# Altium footprint library tyco-mte.PcbLib: 3 footprints
Each footprint in its own frame and in the unit in brackets; x right, y up, seen from the top. Pads: shape width x height; smd on the part's side, far side on the other; paste and mask are expansions set on the pad; w line width, h text height; cw(c..) or ccw(c..) is an arc to the next point about the centre after c.
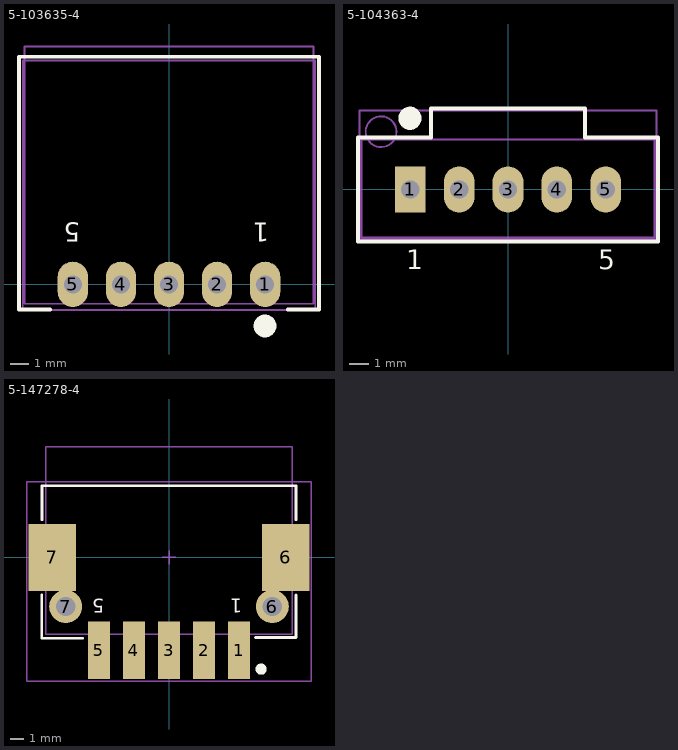
[diagram p0: the footprints below, top view; thin cyan lines are the x and y axes]

## 5-103635-4 [mm] "5pos, 2.54mm Wire to Board Connector, Header,  Right Angle"
height 4
pads (5):
  oval 1.6x2.4 hole 0.95: 1(5.08,0) 2(2.54,0) 3(0,0) 4(-2.54,0) 5(-5.08,0)
Top Overlay:
  circle w0.6: c5.075,-2.2 r0.3
  lines w0.2: -6.275,-1.325 -7.925,-1.325 -7.925,12.025 7.925,12.025 7.925,-1.325 6.275,-1.325
  text "1" at 5.3,3.255 h1
  text "5" at -4.7,3.255 h1
Mechanical 13:
  lines w0.1: -0.5,0.025 0.5,0.025 ; 0,-0.475 0,0.525 ; -7.625,-1.025 7.625,-1.025 7.625,12.575 -7.625,12.575 -7.625,-1.025
Mechanical 15:
  lines w0.1: -7.725,-1.35 7.725,-1.35 7.725,11.825 -7.725,11.825 -7.725,-1.35
  text ".Designator" at 2.3,3.05 h0.5
3D body "c-5-103635-4-s-3d.stp": height 7, standoff -3.29, extent -7.62,-1.026 7.62,12.563

## 5-104363-4 [mm] "5pos, 2.54mm Wire to Board Connector, Header,  Vertical"
height 4
pads (5):
  rect 1.6x2.4 hole 0.95: 1(-5.08,0)
  oval 1.6x2.4 hole 0.95: 2(-2.54,0) 3(0,0) 4(2.54,0) 5(5.08,0)
Top Overlay:
  circle w0.6: c-5.1,3.7 r0.3
  lines w0.2: -7.8,-2.7 -7.8,2.7 -4,2.7 -4,4.2 4,4.2 4,2.7 7.8,2.7 7.8,-2.7 -7.8,-2.7
  text "1" at -5.3,-4.155 h1
  text "5" at 4.7,-4.155 h1
Mechanical 13:
  lines w0.1: -0.5,-0.025 0.5,-0.025 ; 0,-0.525 0,0.475 ; -7.625,-2.5 7.625,-2.5 7.625,2.6 -7.625,2.6 -7.625,-2.5
Mechanical 15:
  circle w0.1: c-6.6,3 r0.8
  lines w0.1: -7.725,-2.6 7.725,-2.6 7.725,4.1 -7.725,4.1 -7.725,-2.6
  text ".Designator" at -2.3,-1.5 h0.5
3D body "c-0104363-54-s2-3d.stp": height 13.59, standoff -3.3, extent -7.62,-2.54 7.62,4.064

## 5-147278-4 [mm] "5pos, 2.54mm Wire to Board Connector, Header, SMT, Right Angle"
height 4
pads (9):
  rect 1.6x4.19 smd: 1(5.08,-6.73) 2(2.54,-6.73) 3(0,-6.73) 4(-2.54,-6.73) 5(-5.08,-6.73)
  round 2.4 / inner round 1.8 / far side round 1.6 hole 1.4 paste+0: 6(7.49,-3.56) 7(-7.49,-3.56)
  rect 3.45x4.83 smd: 6(8.46,0) 7(-8.46,0)
Top Overlay:
  circle w0.4: c6.675,-8.1 r0.2
  lines w0.2: -9.225,-2.725 -9.225,-5.85 -6.275,-5.85 ; -9.2,2.725 -9.2,5.2 9.2,5.2 9.2,2.725 ; 6.275,-5.8 9.2,-5.8 9.2,-2.725
  text "1" at 5.3,-3 h1
  text "5" at -4.7,-3 h1
Mechanical 13:
  lines w0.1: -8.19,-3.56 -6.79,-3.56 ; -7.49,-4.26 -7.49,-2.86 ; -0.5,0 0.5,0 ; 0,-0.5 0,0.5 ; 6.79,-3.56 8.19,-3.56 ; 7.49,-4.26 7.49,-2.86 ; -8.95,-5.575 8.95,-5.575 8.95,8.025 -8.95,8.025 -8.95,-5.575
Mechanical 15:
  lines w0.1: -10.325,-8.975 10.325,-8.975 10.325,5.5 -10.325,5.5 -10.325,-8.975
  text ".Designator" at 2.3,-1.475 h0.5
3D body "c-5-147278-4-l-3d.stp": height 7.05, standoff -1.17, extent -9.296,-8.6 9.296,8.038